# Altium schematic symbol library BLE-Control.SchLib: 49 symbols
Pins are listed as number, name and electrical type; pins without a type are passive.

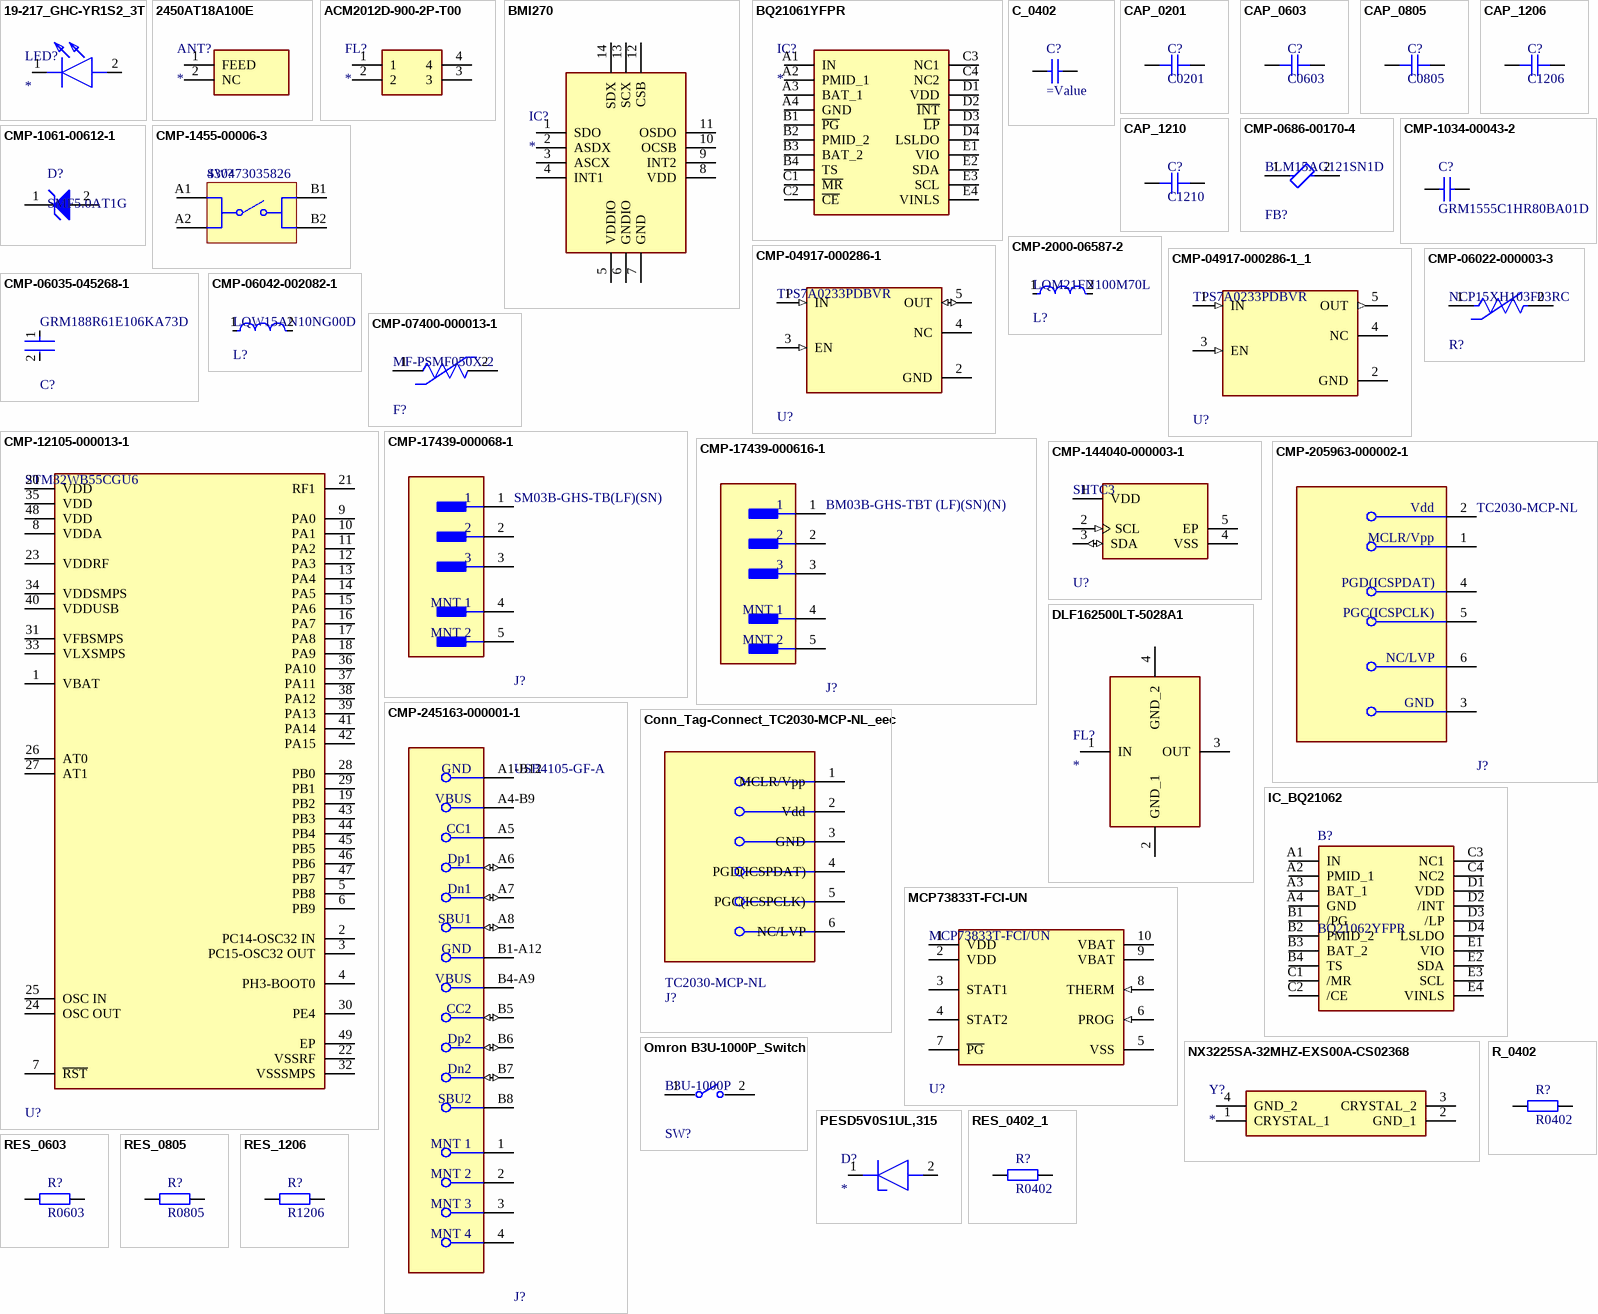
[diagram p0: symbols 19-217_GHC-YR1S2_3T to RES_1206]

## 19-217_GHC-YR1S2_3T
designator LED?
LED; Manufacturer_Name: Everlight; Manufacturer_Part_Number: 19-217/GHC-YR1S2/3T; Datasheet Link: https://www.mouser.co.uk/datasheet/2/143/19-217-GHC-YR1S2-3T-1663276.pdf; Height: 0.5mm; Mouser Part Number: 638-19217GHCYR1S23T; Mouser Price/Stock: https://www.mouser.co.uk/ProductDetail/Everlight/19-217-GHC-YR1S2-3T?qs=8cKuZ6Ok2lZjmFTUzVFjDg%3D%3D; Arrow Part Number: 19-217/GHC-YR1S2/3T; Arrow Price/Stock: https://www.arrow.com/en/products/19-217ghc-yr1s23t/everlight-electronics
footprint LEDC1608X50N
footprint LEDC1608X50N
pins: 1 K, 2 A

## 2450AT18A100E
designator ANT?
Antenna; Manufacturer_Name: JOHANSON TECHNOLOGY; Manufacturer_Part_Number: 2450AT18A100E; Datasheet Link: https://www.johansontechnology.com/datasheets/2450AT18A100/2450AT18A100.pdf; Height: 1.4mm; Mouser Part Number: 609-2450AT18A100E; Mouser Price/Stock: https://www.mouser.co.uk/ProductDetail/Johanson-Technology/2450AT18A100E?qs=yCnrNFeXz%252BjzOYKPg7LGCw%3D%3D; Arrow Part Number: 2450AT18A100E; Arrow Price/Stock: https://www.arrow.com/en/products/2450at18a100e/johanson-dielectrics?utm_currency=USD&region=europe
footprint ANTC3216X140N
footprint ANTC3216X140N
pins: 1 FEED, 2 NC

## ACM2012D-900-2P-T00
designator FL?
Filter; Manufacturer_Name: TDK; Manufacturer_Part_Number: ACM2012D-900-2P-T00; Datasheet Link: https://product.tdk.com/en/search/emc/emc/cmf_cmc/info/print_pdf; Height: 1.3mm; Mouser Part Number: 810-ACM2012D9002PT00; Mouser Price/Stock: https://www.mouser.co.uk/ProductDetail/TDK/ACM2012D-900-2P-T00?qs=uxmvvYJjMIufvI0tFhRfZA%3D%3D; Arrow Part Number: ACM2012D-900-2P-T00; Arrow Price/Stock: https://www.arrow.com/en/products/acm2012d-900-2p-t00/tdk?utm_currency=USD&region=nac
footprint ACM2012D9002PT00
footprint ACM2012D9002PT00
pins: 1, 2, 3, 4

## BMI270
designator IC?
Integrated Circuit; Manufacturer_Name: BOSCH; Manufacturer_Part_Number: BMI270; Datasheet Link: https://www.bosch-sensortec.com/media/boschsensortec/downloads/datasheets/bst-bmi270-ds000.pdf; Height: 0.87mm; Mouser Part Number: 262-BMI270; Mouser Price/Stock: https://www.mouser.co.uk/ProductDetail/Bosch-Sensortec/BMI270?qs=u16ybLDytRYIj%252BjQEee88A%3D%3D; Arrow Part Number: BMI270; Arrow Price/Stock: https://www.arrow.com/en/products/bmi270/bosch-sensortec?utm_currency=USD&region=nac
footprint BMI270
footprint BMI270
pins: 1 SDO, 2 ASDX, 3 ASCX, 4 INT1, 5 VDDIO, 6 GNDIO, 7 GND, 8 VDD, 9 INT2, 10 OCSB, 11 OSDO, 12 CSB, 13 SCX, 14 SDX

## BQ21061YFPR
designator IC?
Integrated Circuit; Manufacturer_Name: Texas Instruments; Manufacturer_Part_Number: BQ21061YFPR; Datasheet Link: https://www.ti.com/lit/gpn/BQ21061; Height: 0.5mm; Mouser Part Number: 595-BQ21061YFPR; Mouser Price/Stock: https://www.mouser.co.uk/ProductDetail/Texas-Instruments/BQ21061YFPR?qs=B6kkDfuK7%2FCrGhvovBmBqg%3D%3D; Arrow Part Number: BQ21061YFPR; Arrow Price/Stock: https://www.arrow.com/en/products/bq21061yfpr/texas-instruments?region=nac
footprint BGA20C40P4X5_162X202X50
footprint BGA20C40P4X5_162X202X50
pins: A1 IN, A2 PMID_1, A3 BAT_1, A4 GND, B1 ~{PG}, B2 PMID_2, B3 BAT_2, B4 TS, C1 ~{MR}, C2 ~{CE}, C3 NC1, C4 NC2, D1 VDD, D2 ~{INT}, D3 ~{LP}, D4 LSLDO, E1 VIO, E2 SDA, E3 SCL, E4 VINLS

## C_0402
designator C?
Ceramic Chip Capacitor 0402; Voltage: 10V; Dielectric: X7R; Tolerance: 10%; ProductionStatus: Placeholder; Package: 0402 (1005); Height: 0.35mm
footprint CAPC1005X56X25ML10T15 (Chip Capacitor, 2-Leads, Body 1.00x0.50mm, IPC Low Density)
footprint CAPC1005X56X25LL10T15 (Chip Capacitor, 2-Leads, Body 1.00x0.50mm, IPC High Density)
footprint CAPC1005X56X25NL10T15 (Chip Capacitor, 2-Leads, Body 1.00x0.50mm, IPC Medium Density)
footprint CHIP_0402_1005N
footprint CAP_0402
pins: 1, 2
1 alternate drawing of the same symbol

## CAP_0201
designator C?, comment C0201
Capacitor SMD 0201; Manufacturer: *; Manufacturer Part Number: *; Distributor Link: *; LCSC: *; Rating: *; Dielectric: *
footprint CAP_0201
pins: 1, 2

## CAP_0603
designator C?, comment C0603
Capacitor SMD 0603; Manufacturer: *; Manufacturer Part Number: *; Distributor Link: *; LCSC: *; Rating: *; Dielectric: *
footprint CAP_0603
pins: 1, 2

## CAP_0805
designator C?, comment C0805
Capacitor SMD 0805; Manufacturer: *; Manufacturer Part Number: *; Distributor Link: *; LCSC: *; Rating: *; Dielectric: *
footprint CAP_0805
pins: 1, 2

## CAP_1206
designator C?, comment C1206
Capacitor SMD 1206; Manufacturer: *; Manufacturer Part Number: *; Distributor Link: *; LCSC: *; Rating: *; Dielectric: *
footprint CAP_1206
pins: 1, 2

## CAP_1210
designator C?, comment C1210
Capacitor SMD 1210; Manufacturer: *; Manufacturer Part Number: *; Distributor Link: *; LCSC: *; Rating: *; Dielectric: *
footprint CAP_1210
pins: 1, 2

## CMP-0686-00170-4
designator FB?, comment BLM15AG121SN1D
Chip Ferrite Bead, 0402, 120Ω @ 100MHz, 0.19Ω, 25%, 550mA; Material: Steel; Max DC Current: 500mA; Shielding: Unshielded; Number of Lines: 1; DC Resistance (DCR): 190mR; Impedance: 120R; Packaging: Tape and Reel; Core Material: Ferrite; Number of Pins: 2; Tolerance: 25%; Case Code (Imperial): 0402; DC Current: 500mA; Termination: SMD/SMT; Height: 0.5mm; REACH SVHC: No SVHC; Max Operating Temperature: 125°C; Case Code (Metric): 1005; Length: 1mm; Test Frequency: 100MHz; Lead Free: Lead Free; Depth: 0.55mm; Max Current Rating: 550mA; Case/Package: 0402; Min Operating Temperature: -55°C; Width: 0.5mm; Military Standard: Not; Frequency: 100MHz; Current Rating: 550mA; Package Quantity: 1; Number of Circuits: 1; Radiation Hardening: No
footprint FP-BLM15-0_05-IPC_C
footprint FP-BLM15-0_05-IPC_A
footprint FP-BLM15-0_05-MFG
footprint FP-BLM15-0_05-IPC_B
footprint FP-BLM15-0_05-IPC_A
pins: 1, 2

## CMP-1034-00043-2
designator C?, comment GRM1555C1HR80BA01D
Manufacturer: Murata; Part Number: GRM1555C1HR80BA01D
footprint CAPC1005X55X25LL05T10 (Chip Capacitor, 2-Leads, Body 1.00x0.50mm, IPC High Density)
footprint CAPC1005X55X25NL05T10 (Chip Capacitor, 2-Leads, Body 1.00x0.50mm, IPC Medium Density)
footprint CAPC1005X55X25ML05T10 (Chip Capacitor, 2-Leads, Body 1.00x0.50mm, IPC Low Density)
pins: 1, 2
1 alternate drawing of the same symbol

## CMP-1061-00612-1
designator D?, comment SMF5.0AT1G
200 W Transient Voltage Suppressor, 2-Pin SOD-123FL, Pb-Free, Tape and Reel; Manufacturer: On Semiconductor; Direction: Unidirectional; IR Max (uA): 400; V(BR) Typ (V): 6.7; PackageDescription: 2-Pin SOD, Body 1.65 x 2.7 mm; PartNumber: SMF5.0AT1G; ComponentLink3Description: Package Specification; ComponentLink3URL: http://www.onsemi.com/pub_link/Collateral/498-01.PDF; PackageVersion: Rev. D, 05/2013; Mounting Technology: Surface Mount; PackageReference: SOD-123FL-2-498; ComponentLink2URL: http://www.onsemi.com/pub_link/Collateral/SMF5.0AT1-D.PDF; DatasheetVersion: Rev. 7; ComponentLink1Description: Manufacturer URL; Packing: Tape and Reel; RoHS: Pb-Free; ComponentLink1URL: http://www.onsemi.com/; ComponentLink2Description: Datasheet
footprint ONSC-SOD-123FL-2-498_V (SOD, 2-Leads, Body 2.7x1.65mm)
pins: 1 K, 2 A

## CMP-1455-00006-3
designator SW?, comment 430473035826
Switch Tactile Spst-no 0.05A 12V; Throw Configuration: SPST; Switch Travel: 250µm; Actuator Material: Liquid Crystal Polymer, Polymer; Current Rating: 50mA; Insulation Resistance: 100MΩ; Illumination Type: Non-Illuminated; Switch Function: Off-Mom; Mechanical Life: 500kcycles; Voltage Rating: 12V; Max Operating Temperature: 85°C; Packaging: Tape and Reel; RoHS: Compliant; Height: 3.5mm; Contact Plating: Silver; Mount: Surface Mount; Min Operating Temperature: -40°C
footprint 430473035826 (SMD Tact Switch, body 6x6mm)
pins: A1, A2, B1, B2

## CMP-2000-06587-2
designator L?, comment LQM21FN100M70L
FIXED IND 10UH 100MA 780MOHM SMD; Shielding: Shielded; Core Material: Ferrite; Self Resonant Frequency: 15MHz; Tolerance: 20%; DC Resistance (DCR): 780mR; Test Frequency: 1MHz; Height: 1.45mm; Package Quantity: 3000; Width: 0.049inch; Inductance: 10uH; Saturation Current: 100mA; Termination: SMD/SMT; Case Code (Metric): 2012; Case/Package: 0805; RoHS Compliant: Yes; Series: LQM21F_70; Max Operating Temperature: 125°C; Lead Free: Lead Free; DC Current: 100mA; Length: 2.2mm; Radiation Hardening: No; Max DC Current: 100mA; Case Code (Imperial): 0805; Packaging: Tape and Reel; Height - Seated (Max): 0.057inch; Rated Current-Max: 100mA; Military Standard: Not; Mount: Surface Mount; Min Operating Temperature: -55°C; Depth: 1.45mm; Current Rating: 100mA
footprint FP-LQM21FN_70-IPC_A
footprint FP-LQM21FN_70-IPC_B
footprint FP-LQM21FN_70-IPC_C
footprint FP-LQM21FN_70-MFG
pins: 1, 2

## CMP-04917-000286-1
designator U?, comment TPS7A0233PDBVR
IC REG LINEAR 3.3V 200MA SOT23-5; RoHS Compliant: Yes
footprint FP-DBV0005A-MFG
footprint FP-DBV0005A-IPC_B
footprint FP-DBV0005A-IPC_C
footprint FP-DBV0005A-IPC_A
pins: 1 IN (in), 2 GND (power), 3 EN (in), 4 NC, 5 OUT (io)

## CMP-04917-000286-1_1
designator U?, comment TPS7A0233PDBVR
IC REG LINEAR 3.3V 200MA SOT23-5; RoHS Compliant: Yes
footprint FP-DBV0005A-MFG
footprint FP-DBV0005A-IPC_B
footprint FP-DBV0005A-IPC_C
footprint FP-DBV0005A-IPC_A
footprint FP-DBV0005A-IPC_A
pins: 1 IN (in), 2 GND (power), 3 EN (in), 4 NC, 5 OUT (out)

## CMP-06022-000003-3
designator R?, comment NCP15XH103F03RC
NTC Thermistor for Temperature Sensor, 0402, 10kΩ, 1%, 0.1mA, 5V; Max Power Dissipation: 100mW; Resistance: 10kR; Current Rating: 310uA; Length: 1mm; Min Operating Temperature: -40°C; Max Operating Temperature: 125°C; Resistance Tolerance: 1%; Lead Free: Lead Free; Radiation Hardening: No; Case Code (Imperial): 0402; Depth: 0.5mm; Tolerance: 1%; Packaging: Tape and Reel; Package Quantity: 10000; Series: NCP; Number of Pins: 2; Power Rating: 100mW; Case/Package: 0402; Case Code (Metric): 1005; Height: 0.5mm; Termination: SMD/SMT; RoHS Compliant: Yes; REACH SVHC: No SVHC; Mount: Surface Mount
footprint FP-NCP15-NCU15-0_05-IPC_C
footprint FP-NCP15-NCU15-0_05-IPC_B
footprint FP-NCP15-NCU15-0_05-MFG
footprint FP-NCP15-NCU15-0_05-IPC_A
pins: 1, 2

## CMP-06035-045268-1
designator C?, comment GRM188R61E106KA73D
Chip Multilayer Ceramic Capacitors for General Purpose, 0603, 10uF, X5R, 15%, 10%, 25V; Case/Package: 0603
footprint FP-GRM188-0_2-IPC_C
footprint FP-GRM188-0_2-IPC_B
footprint FP-GRM188-0_2-MFG
footprint FP-GRM188-0_2-IPC_A
pins: 1, 2

## CMP-06042-002082-1
designator L?, comment LQW15AN10NG00D
Wire Wound RF Inductor 10nH ±2% 500mA 0.17Ω 0402 (1005); Shielding: Unshielded; DC Resistance (DCR): 170mR; Test Frequency: 100MHz; Current: 370mA; Core Material: Non-Magnetic; Self Resonant Frequency: 5.5GHz; Tolerance: 2%; Depth: 0.7mm; Lead Free: Lead Free; Termination: SMD/SMT; Case Code (Imperial): 0402; Height - Seated (Max): 0.024inch; Package Quantity: 10000; Packaging: Tape and Reel; Case/Package: 0402; REACH SVHC: No SVHC; Length: 1mm; Weight: 2.8E-05oz; Resistor Type: Wirewound; Number of Pins: 2; Mount: Surface Mount; DC Current: 500mA; Max Operating Temperature: 125°C; Case Code (Metric): 1005; Width: 0.02inch; Max DC Current: 500mA; Inductance: 10nH; Radiation Hardening: No; Height: 0.5mm; Current Rating: 500mA; Min Operating Temperature: -55°C; Military Standard: Not; Inductance Tolerance: 2%
footprint FP-LQW15AN_00-W0_6-0_1-MFG
pins: 1, 2

## CMP-07400-000013-1
designator F?, comment MF-PSMF050X-2
PTC RESET FUSE 6V 500MA 0805; Manufacturer: Bourns Inc.; Trip Current: 1A; Trip Time: 0.1s; Value: 0.15-0.9Ω; Hold Current: 0.5A; Current Rating: 40A; Category: Fuse; Temperature: -40°C to +85°C; ComponentLink2Description: Datasheet; Manufacturer Part Number: MF-PSMF050X-2; Temperature Range High: +85°C; Package: MF-PSMF; Device Class L1: Circuit Protection; Lead Free: Yes; ComponentLink2URL: https://www.bourns.com/docs/product-datasheets/mfpsmf.pdf?sfvrsn=9c05cafe_24; Ambient Temperature Range Low: -40°C; Mouser Description: Resettable Fuses - PPTC .50A 6V 0.15ohm Hold .5 Trip 1; Resistance: 0.15-0.9Ω; Automotive: Yes; Ambient Temperature Range High: +85°C; Device Class L2: PTC Resettable Fuses; Temperature Range Low: -40°C; Device Class L3: unset; Octopart: https://octopart.com/mf-psmf050x-2-bourns-7483438; Digikey Description: PTC RESET FUSE 6V 500MA 0805; Height: 0.85mm; RoHS: TRUE; Voltage Rating: 6V
footprint FP-MF-PSMF-MFG
pins: 1, 2

## CMP-12105-000013-1
designator U?, comment STM32WB55CGU6
ULTRA-LOW-POWER DUAL CORE ARM CO; Manufacturer: STMicroelectronics; Number Of Cores: 1; Number Of I2C Channels: 2; Interface: I2C,SPI,UART,USART,2-Wire,USB,IrDA,Other; Core Architecture: ARM Cortex-M4; Data Bus Width: 32bits; Memory Size: 1MBytes; Number Of Pwm Channels: 14; Max Supply Voltage: 3.6V; Standoff Height: 0mm; Number Of Timers/Counters: 6; Frequency: 64MHz; Max Junction Temp: +105°C; Number Of I/Os: 30; Min Supply Voltage: 1.71V; Number Of Adc Channels: 13; Ram Size: 256KBytes; Memory Type: FLASH; Octopart: https://octopart.com/stm32wb55cgu6-stmicroelectronics-98750847; Temperature Range High: +105°C; RoHS: TRUE; Number Of Spi Channels: 1; Category: IC; Device Class L1: Integrated Circuits (ICs); Lead Free: Yes; Height: 0.65mm; Number Of A/D Converters: 1; Package: UFQFPN48; Number Of Usb Channels: 1; Number Of Uart Channels: 2; Temperature Range Low: -40°C; Ambient Temperature Range Low: -40°C; Device Class L3: Microcontrollers; Manufacturer Part Number: STM32WB55CGU6; Temperature: -40°C to +105°C; ComponentLink2URL: https://www.st.com/resource/en/datasheet/stm32wb55cg.pdf; Device Class L2: Embedded Processors and Controllers; Digikey Description: ULTRA-LOW-POWER DUAL CORE ARM CO; ComponentLink2Description: Datasheet; Ambient Temperature Range High: +85°C; Automotive: No
footprint FP-STM32WB55CGU6-IPC_B
footprint FP-STM32WB55CGU6-MFG
footprint FP-STM32WB55CGU6-IPC_A
footprint FP-STM32WB55CGU6-IPC_C
pins: 1 VBAT, 2 PC14-OSC32 IN, 3 PC15-OSC32 OUT, 4 PH3-BOOT0, 5 PB8, 6 PB9, 7 ~{RST}, 8 VDDA, 9 PA0, 10 PA1, 11 PA2, 12 PA3, 13 PA4, 14 PA5, 15 PA6, 16 PA7, 17 PA8, 18 PA9, 19 PB2, 20 VDD, 21 RF1, 22 VSSRF, 23 VDDRF, 24 OSC OUT, 25 OSC IN, 26 AT0, 27 AT1, 28 PB0, 29 PB1, 30 PE4, 31 VFBSMPS, 32 VSSSMPS, 33 VLXSMPS, 34 VDDSMPS, 35 VDD, 36 PA10, 37 PA11, 38 PA12, 39 PA13, 40 VDDUSB, 41 PA14, 42 PA15, 43 PB3, 44 PB4, 45 PB5, 46 PB6, 47 PB7, 48 VDD, 49 EP (power)

## CMP-17439-000068-1
designator J?, comment SM03B-GHS-TB(LF)(SN)
CONN HEADER SMD R/A 3POS 1.25MM; Voltage Rating: 50V; Wire/Cable Gauge: 26AWG; Pitch: 0.049inch; Gender: Male; Number of Positions: 3; Current Rating: 1A; Orientation: Right Angle; REACH SVHC: No SVHC; Insulation Color: Natural; Housing Material: Nylon; Mount: Surface Mount; Flammability Rating: UL94 V-0; Color: Natural; Number of Rows: 1; Housing Color: Natural; Termination: Solder; Voltage Rating (AC): 50V; Max Operating Temperature: 85°C; Connector Type: Header; Series: GH; Packaging: Tape and Reel; Contact Finish - Mating: TIN; Lead Free: Lead Free; Fastening Type: Ramp; Contact Plating: Tin; Contact Material: Bronze; Insulation Material: Nylon; Contact Type: Outer Shroud Contact; Number of Contacts: 3; Min Operating Temperature: -25°C; Contact Shape: Rectangular
footprint FP-SM03B-GHS-TB_LF_SN-MFG
pins: 1, 2, 3, 4 MNT 1, 5 MNT 2

## CMP-17439-000616-1
designator J?, comment BM03B-GHS-TBT (LF)(SN)(N)
CONN HEADER SMD 3POS 1.25MM; Mated Stacking Heights: 7.3mm; Voltage Rating: 50V; Pitch: 0.049inch; Number of Positions: 3; Contact Material: Bronze; Number of Rows: 1; Packaging: Cut Tape; Fastening Type: Ramp; Contact Shape: Rectangular; Termination: Solder; Flammability Rating: UL94 V-0; Lead Free: Lead Free; Color: Natural; Mount: Surface Mount; Contact Finish - Mating: TIN; Max Operating Temperature: 85°C; Series: GH; Insulation Color: Natural; Connector Type: Header; Insulation Material: Nylon; Contact Type: Outer Shroud Contact; Min Operating Temperature: -25°C; Contact Plating: Tin
footprint FP-BM03B-GHS-TBT_LF_SN-MFG
footprint FP-BM03B-GHS-TBT_LF_SN-MFG
footprint FP-BM03B-GHS-TBT_LF_SN-MFG
pins: 1, 2, 3, 4 MNT 1, 5 MNT 2

## CMP-144040-000003-1
designator U?, comment SHTC3
SENSOR HUMI/TEMP I2C 2% SMD; Manufacturer: Sensirion; Operating Supply Current: 0.3-900uA; Resolution: 16bits; Min Supply Voltage: 1.62V; Max Supply Voltage: 3.6V; Category: IC; Device Class L3: unset; ComponentLink2URL: https://www.sensirion.com/fileadmin/user_upload/customers/sensirion/Dokumente/0_Datasheets/Humidity/Sensirion_Humidity_Sensors_SHTC3_Datasheet.pdf; Ipc Land Pattern Name: DFN200X200X75-4; RoHS: TRUE; Height: 0.75mm; Interface: I2C; Temperature Range High: +125°C; Accuracy: 2%; Sensor Output: I2C; Automotive: No; Package: 0; Device Class L1: Sensors; Manufacturer Part Number: SHTC3; Digikey Description: SENSOR HUMI/TEMP I2C 2% SMD; Lead Free: Yes; Temperature: -40°C to +125°C; Device Class L2: Temperature and Humidity Sensors; ComponentLink2Description: Datasheet; Octopart: https://octopart.com/shtc3-sensirion-91912225; Mouser Description: SHTC3 Series 0 to 100% RH 3.6 V Humidity and Temperature Sensor IC - DFN-4; Temperature Range Low: -40°C
footprint FP-SHTC3-IPC_A
footprint FP-SHTC3-IPC_C
footprint FP-SHTC3-IPC_B
footprint FP-SHTC3-MFG
pins: 1 VDD (power), 2 SCL (in), 3 SDA (io), 4 VSS (power), 5 EP (power)

## CMP-205963-000002-1
designator J?, comment TC2030-MCP-NL
CABLE TAG-CONNECT IN-CIRCUIT; RoHS Compliant: Yes; Series: -; Reach SVHC Compliant: Yes; Package Quantity: 1; Lead Free: Lead Free
footprint FP-TC2030-MCP-NL-MFG
pins: 1 MCLR/Vpp, 2 Vdd, 3 GND, 4 PGD(ICSPDAT), 5 PGC(ICSPCLK), 6 NC/LVP

## CMP-245163-000001-1
designator J?, comment USB4105-GF-A
CONN RCPT USB2.0 TYPEC 5A; Manufacturer: GCT; Voltage Rating: 20V; Is Female: yes; Current Rating: 5/6.25/1.25/0.25A; Number Of Contacts: 16; Conn Orientation: Right Angle; Device Class L1: Connectors; Category: Conn; Lead Free: Yes; RoHS: TRUE; Temperature Range High: +85°C; Digikey Description: CONN RCPT USB2.0 TYPEC 5A; Device Class L3: unset; ComponentLink2Description: Datasheet; Manufacturer Part Number: USB4105-GF-A; Package: 0; Usb Standard: USB 2.0; Device Class L2: USB Connectors; Automotive: No; Temperature Range Low: -40°C; Height: 3.46mm; Temperature: -40°C to +85°C; Contact Material: Gold,Nickel; ComponentLink2URL: https://gct.co/files/drawings/usb4105.pdf; Octopart: https://octopart.com/usb4105-gf-a-gct-106627878
footprint FP-USB4105-GF-A-MFG
footprint FP-USB4105-GF-A-MFG
pins: 1 MNT 1 (power), 2 MNT 2 (power), 3 MNT 3 (power), 4 MNT 4 (power), A1-B12 GND, A4-B9 VBUS (power), A5 CC1 (power), A6 Dp1 (io), A7 Dn1 (io), A8 SBU1 (io), B1-A12 GND, B4-A9 VBUS, B5 CC2 (io), B6 Dp2 (io), B7 Dn2 (io), B8 SBU2 (power)

## Conn_Tag-Connect_TC2030-MCP-NL_eec
designator J?  Part Number: TC2030-MCP-NL
CONN CABLE TAG-CONNECT IN-CIRCUIT; Is Female: yes; helpURL: https://upverter.com/upn/revision/09e6da02f3f505e8/; ComponentLink2Description: Datasheet; Temperature: to; Package: CONN_SMT; Supplier 2: Mouser; Supplier 1: Digi-Key; ComponentLink1URL: https://upverter.com/upn/revision/09e6da02f3f505e8/; Supplier Part Number 2: 579-TC2030-MCP-NL; Supplier Part Number 1: TC2030-MCP-NL-ND; Manufacturer: Tag-Connect; ComponentLink1Description: Upverter; ComponentLink2URL: http://www.tag-connect.com/Materials/TC2030-MCP-NL%20PCB%20Footprint.pdf; RoHS: TRUE; Mouser Part Number: 579-TC2030-MCP-NL; Digikey Description: CONN CABLE TAG-CONNECT IN-CIRCUIT; Digikey Part Number: TC2030-MCP-NL-ND; Lead Free: yes
footprint Tag-Connect_TC2030-MCP-NL_0
pins: 1 MCLR/Vpp, 2 Vdd, 3 GND, 4 PGD(ICSPDAT), 5 PGC(ICSPCLK), 6 NC/LVP

## DLF162500LT-5028A1
designator FL?
Filter; Manufacturer_Name: TDK; Manufacturer_Part_Number: DLF162500LT-5028A1; Datasheet Link: https://product.tdk.com/system/files/dam/doc/product/rf/rf/filter/catalog/rf_lpf_dlf162500lt-5028a1_en.pdf; Height: 0.4mm; Mouser Part Number: 810-DLF16250LT5028A1; Mouser Price/Stock: https://www.mouser.co.uk/ProductDetail/TDK/DLF162500LT-5028A1?qs=U%2FZX79kHR%2FlwIbAISCs3qA%3D%3D; Arrow Part Number: DLF162500LT-5028A1; Arrow Price/Stock: https://www.arrow.com/en/products/dlf162500lt-5028a1/tdk?utm_currency=USD&region=nac
footprint DLF162500LT5028A1
footprint DLF162500LT5028A1
pins: 1 IN, 2 GND_1, 3 OUT, 4 GND_2

## IC_BQ21062
designator B?, comment BQ21062YFPR
Battery Management 500-mA 1-cell linear charger with 10-nA ship mode, power-path, regulated system voltage and LDO; Manufacturer_Name: Texas Instruments; Geometry.Height: 0.5mm; Manufacturer_Part_Number: BQ21062YFPR; Mouser Part Number: 595-BQ21062YFPR; Mouser Price/Stock: https://www.mouser.co.uk/ProductDetail/Texas-Instruments/BQ21062YFPR?qs=yqaQSyyJnNgXcFMWqkWYMA%3D%3D; Arrow Part Number: BQ21062YFPR; Arrow Price/Stock: https://www.arrow.com/en/products/bq21062yfpr/texas-instruments?utm_currency=USD&region=nac; Datasheet Link: https://www.ti.com/lit/ds/symlink/bq21062.pdf?ts=1601517026729&ref_url=https%253A%252F%252Fwww.mouser.jp%252F
footprint BGA20C40P4X5_162X202X50
pins: A1 IN, A2 PMID_1, A3 BAT_1, A4 GND, B1 /PG, B2 PMID_2, B3 BAT_2, B4 TS, C1 /MR, C2 /CE, C3 NC1, C4 NC2, D1 VDD, D2 /INT, D3 /LP, D4 LSLDO, E1 VIO, E2 SDA, E3 SCL, E4 VINLS

## MCP73833T-FCI-UN
designator U?, comment MCP73833T-FCI/UN
IC LI-ION/LI-POLY CTRLR 10MSOP; Output Voltage: 4.5V; Min Supply Voltage: 3.75V; Output Current: 1.2A; Number of Cells: 1; Max Charge Current: 1.1A; Battery Pack Voltage: 4.2V; Max Supply Voltage: 6V; Fault Protection: Over Temperature; Mount: Surface Mount; Number of Pins: 10; Lead Free: Lead Free; Min Operating Temperature: -40°C; Radiation Hardening: No; Case/Package: MSOP; Max Operating Temperature: 85°C; Packaging: Tape and Reel; Package Quantity: 2500
footprint FP-C04-021-IPC_C
footprint FP-C04-021-IPC_A
footprint FP-C04-021-IPC_B
footprint FP-C04-021-MFG
pins: 1 VDD (power), 2 VDD (power), 3 STAT1 (oc), 4 STAT2 (oc), 5 VSS (power), 6 PROG (in), 7 ~{PG} (oc), 8 THERM (in), 9 VBAT (power), 10 VBAT (power)

## NX3225SA-32MHZ-EXS00A-CS02368
designator Y?
Crystal or Oscillator; Manufacturer_Name: NDK; Manufacturer_Part_Number: NX3225SA-32MHZ-EXS00A-CS02368; Datasheet Link: https://hu.mouser.com/datasheet/2/905/ndk_04232018_NX3225SA-32MHZ-EXS00A-CS02368-1324924.pdf; Height: 0.6mm; Mouser Part Number: 344-NX3225SA32MHZEXS; Mouser Price/Stock: https://www.mouser.co.uk/ProductDetail/NDK/NX3225SA-32MHZ-EXS00A-CS02368?qs=55YtniHzbhCu90OOsHDzwg%3D%3D
footprint NX3225SA32MHZEXS00ACS02368
footprint NX3225SA32MHZEXS00ACS02368
pins: 1 CRYSTAL_1, 2 GND_1, 3 CRYSTAL_2, 4 GND_2

## Omron B3U-1000P_Switch
designator SW?, comment B3U-1000P
SWITCH TACTILE SPST-NO 0.05A 12V; Contact Resistance: 100mR; Operating Force: 1.5N; Max Current Rating: 50mA; Switch Travel: 0.15mm; Actuator Type: Standard; Mechanical Life: 200000Cycles; Ratings: Dust Proof; Illumination Type: Non-Illuminated; Throw Configuration: SPST; Actuator Length: 0.4mm; Switch Function: Off-Mom; Height: 1.2mm; Width: 3mm; Weight: 0.000776oz; Contact Material: Silver; Max Voltage Rating (DC): 12V; Insulation Resistance: 100MR; Lead Free: Lead Free; Current Rating: 50mA; Termination: SMD/SMT; Length: 4mm; Voltage Rating (DC): 12V; Contact Current Rating: 50mA; Orientation: Straight; Depth: 2.5mm; Max Operating Temperature: 70°C; Packaging: Tape and Reel; Min Operating Temperature: -25°C; Package Quantity: 1; Mount: Surface Mount; Electrical Life: 200000Cycles
footprint FP-B3U-1000P-MFG
footprint FP-B3U-1000P-MFG
footprint FP-B3U-1000P-MFG
footprint FP-B3U-1000P-MFG
pins: 1, 2

## PESD5V0S1UL,315
designator D?
Diode ESD (Uni-directional); Manufacturer_Name: Nexperia; Manufacturer_Part_Number: PESD5V0S1UL,315; Datasheet Link: https://assets.nexperia.com/documents/data-sheet/PESD5V0S1UL.pdf; Height: 0mm; Mouser Part Number: 771-PESD5V0S1UL315; Mouser Price/Stock: https://www.mouser.co.uk/ProductDetail/Nexperia/PESD5V0S1UL315?qs=LOCUfHb8d9sSC%2FUB7ugsVw%3D%3D; Arrow Part Number: PESD5V0S1UL,315; Arrow Price/Stock: https://www.arrow.com/en/products/pesd5v0s1ul315/nexperia?utm_currency=USD&region=nac
footprint PESD5V0S1BL315
footprint PESD5V0S1BL315
pins: 1 K, 2 A

## R_0402
designator R?, comment R0402
Resistor SMD 0402; Manufacturer: *; Manufacturer Part Number: *; Distributor Link: *; LCSC: *
footprint RES_0402
footprint RES_0402
footprint RES_0402
pins: 1, 2

## RES_0402_1
designator R?, comment R0402
Resistor SMD 0402; Manufacturer: *; Manufacturer Part Number: *; Distributor Link: *; LCSC: *
footprint RES_0402
pins: 1, 2

## RES_0603
designator R?, comment R0603
Resistor SMD 0603; Manufacturer: *; Manufacturer Part Number: *; Distributor Link: *; LCSC: *
footprint RES_0603
pins: 1, 2

## RES_0805
designator R?, comment R0805
Resistor SMD 0805; Manufacturer: *; Manufacturer Part Number: *; Distributor Link: *; LCSC: *
footprint RES_0805
pins: 1, 2

## RES_1206
designator R?, comment R1206
Resistor SMD 1206; Manufacturer: *; Manufacturer Part Number: *; Distributor Link: *; LCSC: *
footprint RES_1206
pins: 1, 2

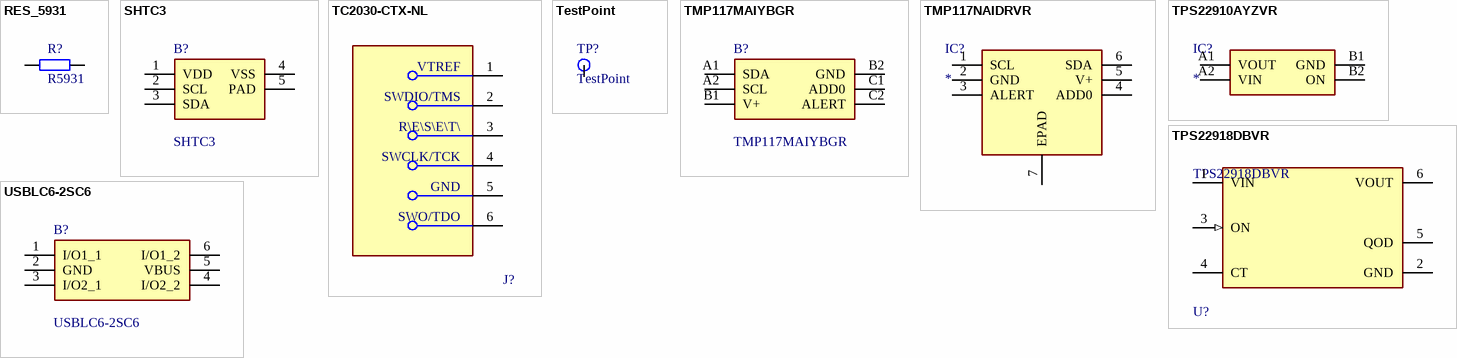
[diagram p1: symbols RES_5931 to USBLC6-2SC6]

## RES_5931
designator R?, comment R5931
Current Sense Resistor SMD 0805; Manufacturer: *; Manufacturer Part Number: *; Distributor Link: *
footprint RES_5931
pins: 1, 2

## SHTC3
designator B?
Humidity and Temperature Sensor IC; Manufacturer_Name: Sensirion; Geometry.Height: 0.75mm; Mouser Part Number: 403-SHTC3; Mouser Price/Stock: https://www.mouser.com/Search/Refine.aspx?Keyword=403-SHTC3; Manufacturer_Part_Number: SHTC3; Datasheet Link: https://componentsearchengine.com//SHTC3.pdf
footprint SHTC3
pins: 1 VDD, 2 SCL, 3 SDA, 4 VSS, 5 PAD

## TC2030-CTX-NL
designator J?  (value not drawn)
footprint Tag_Connect_0_MFG
pins: 1 VTREF, 2 SWDIO/TMS, 3 ~{RESET}, 4 SWCLK/TCK, 5 GND, 6 SWO/TDO

## TestPoint
designator TP?
footprint TP_VIA_0p75
pins: 1 0

## TMP117MAIYBGR
designator B?
+/-0.1C accurate digital temperature sensor with integrated NV memory; Manufacturer_Name: Texas Instruments; Geometry.Height: 0.5mm; Mouser Part Number: 595-TMP117MAIYBGR; Mouser Price/Stock: https://www.mouser.co.uk/ProductDetail/Texas-Instruments/TMP117MAIYBGR?qs=vLWxofP3U2wReoA4ATB%2Fjg%3D%3D; Manufacturer_Part_Number: TMP117MAIYBGR; Datasheet Link: http://www.ti.com/lit/gpn/TMP117
footprint BGA6C40P2X3_95X149X50
pins: A1 SDA, A2 SCL, B1 V+, B2 GND, C1 ADD0, C2 ALERT

## TMP117NAIDRVR
designator IC?
Integrated Circuit; Manufacturer_Name: Texas Instruments; Manufacturer_Part_Number: TMP117NAIDRVR; Datasheet Link: http://www.ti.com/lit/gpn/tmp117; Height: 0.8mm; Mouser Part Number: 595-TMP117NAIDRVR; Mouser Price/Stock: https://www.mouser.co.uk/ProductDetail/Texas-Instruments/TMP117NAIDRVR?qs=qSfuJ%252Bfl%2Fd51FgClPJTgfg%3D%3D; Arrow Part Number: TMP117NAIDRVR; Arrow Price/Stock: https://www.arrow.com/en/products/tmp117naidrvr/texas-instruments?utm_currency=USD&region=nac
footprint SON65P200X200X80-7N
pins: 1 SCL, 2 GND, 3 ALERT, 4 ADD0, 5 V+, 6 SDA, 7 EPAD

## TPS22910AYZVR
designator IC?
Integrated Circuit; Manufacturer_Name: Texas Instruments; Manufacturer_Part_Number: TPS22910AYZVR; Datasheet Link: http://www.ti.com/lit/gpn/tps22910a; Height: 0.5mm; Mouser Part Number: 595-TPS22910AYZVR; Mouser Price/Stock: https://www.mouser.co.uk/ProductDetail/Texas-Instruments/TPS22910AYZVR?qs=luhu8ESwuKxMmMNtGQ7xTg%3D%3D; Arrow Part Number: TPS22910AYZVR; Arrow Price/Stock: https://www.arrow.com/en/products/tps22910ayzvr/texas-instruments?region=nac
footprint BGA4C50P2X2_89X89X50
pins: A1 VOUT, A2 VIN, B1 GND, B2 ON

## TPS22918DBVR
designator U?
IC SINGLE CHANNEL LOAD SWITCH; NexarPartId: 71360943; Manufacturer Lifecycle Status: ACTIVE; Fall Time: 2µs; Max Junction Temperature (Tj): 125°C; Number of Channels: 1; Output Current: 2A; Max Supply Voltage: 5.5V; Output Configuration: High Side; Min Supply Voltage: 1V; Interface: On/Off; Rise Time: 2.54ms; Turn-On Delay Time: 1.95ms; Lead Free: Lead Free; RoHS: Compliant; Ambient Temperature Range High: 105°C; Thickness: 1.2mm; Width: 1.6mm; Lifecycle Status: Production; Case/Package: SOT-23; Schedule B: 8542390000, 8542390000|8542390000|8542390000|8542390000|8542390000|8542390000|8542390000|8542390000|8542390000|8542390000|8542390000|8542390000|8542390000|8542390000|8542390000|8542390000|8542390000|8542390000|8542390000|8542390000|8542390000|8542390000|8542390000|85; Turn-Off Delay Time: 2µs; Max Output Current: 2A; Number of Outputs: 1; Number of Pins: 6; Height: 1.45mm; Number of Drivers: 1; Length: 2.9mm; Max Operating Temperature: 105°C; Min Operating Temperature: -40°C
footprint FP-DBV0006A-IPC_B
footprint FP-DBV0006A-IPC_B
pins: 1 VIN (power), 2 GND (power), 3 ON (in), 4 CT, 5 QOD, 6 VOUT

## USBLC6-2SC6
designator B?
TVS Diode Array Uni-Directional USBLC6-2SC6 17V, SOT-23 6-Pin; Manufacturer_Name: STMicroelectronics; Geometry.Height: 1.45mm; Manufacturer_Part_Number: USBLC6-2SC6; Mouser Part Number: 511-USBLC6-2SC6; Mouser Price/Stock: https://www.mouser.co.uk/ProductDetail/STMicroelectronics/USBLC6-2SC6?qs=po45yt2pPpu%2FhNIlwQdTlg%3D%3D; Arrow Part Number: USBLC6-2SC6; Arrow Price/Stock: https://www.arrow.com/en/products/usblc6-2sc6/stmicroelectronics?utm_currency=USD&region=europe; Datasheet Link: http://www.st.com/st-web-ui/static/active/en/resource/technical/document/datasheet/CD00050750.pdf
footprint SOT95P280X145-6N
pins: 1 I/O1_1, 2 GND, 3 I/O2_1, 4 I/O2_2, 5 VBUS, 6 I/O1_2